# EAGLE library part AO4805 (library SSI)
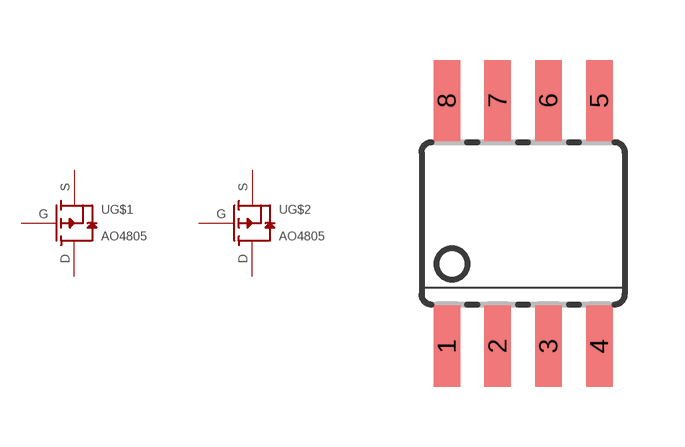
[diagram p20: symbol with the pads of SOIC08; footprint SOIC08]

Designator prefix -; gates G$1=IPD042P03L3G G$2=IPD042P03L3G

## AO4805  [SOIC08]
1  G$2:S
2  G$2:G
3  G$1:S
4  G$1:G
5  G$1:D
6  G$1:D
7  G$2:D
8  G$2:D

## Footprint SOIC08 (pad centres in mm)
Small Outline Package
smd 0.66 x 2.032: 1 -1.905,-3.073; 2 -0.635,-3.073; 3 0.635,-3.073; 4 1.905,-3.073; 5 1.905,3.073; 6 0.635,3.073; 7 -0.635,3.073; 8 -1.905,3.073